# Altium integrated library ESP32-S3_Super_Mini.IntLib: 1 symbol
Pins are listed as number, name and electrical type; pins without a type are passive.

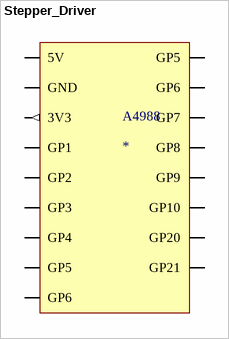
[diagram p0: symbol Stepper_Driver]

## Stepper_Driver
designator A4988
footprint PCBComponent_1
footprint A4988
pins: 6 GP4 (io) "Sleep", 6 GP2 (io) "Sleep", 6 GP1 (io) "Sleep", 6 GP5 (io) "Sleep", 6 GP7 (io) "Sleep", 6 GP8 (io) "Sleep", 6 GP9 (io) "Sleep", 6 GP20 (io) "Sleep", 6 GP5 (io) "Sleep", 6 GP21 (io) "Sleep", 8 GP3 (io) "Step-Richtung", 8 3V3 (out) "Step-Richtung", 8 GP6 (io) "Step-Richtung", 8 GP10 (io) "Step-Richtung", 8 GP6 (io) "Step-Richtung", 9 5V (power) "Versorgung Motor", 10 GND (power) "Versorgung Treiber"